# Altium footprint library Modules.PcbLib: 4 footprints
Each footprint in its own frame and in the unit in brackets; x right, y up, seen from the top. Pads: shape width x height; smd on the part's side, far side on the other; paste and mask are expansions set on the pad; w line width, h text height; cw(c..) or ccw(c..) is an arc to the next point about the centre after c.
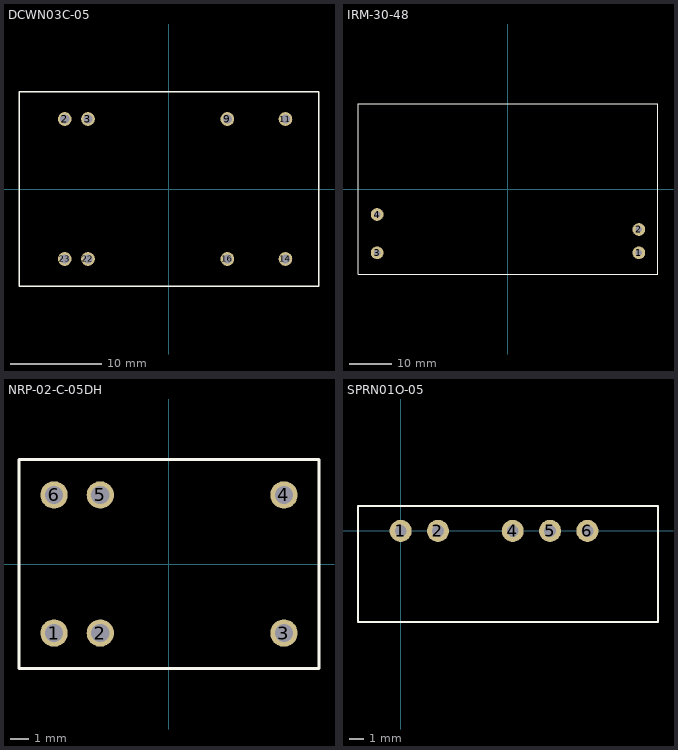
[diagram p0: the footprints below, top view; thin cyan lines are the x and y axes]

## DCWN03C-05 [mm]
pads (8):
  round 1.5 hole 1 unplated: 2(-11.4,7.65) 3(-8.86,7.65) 9(6.38,7.65) 11(12.73,7.65) 14(12.73,-7.65) 16(6.38,-7.65) 22(-8.86,-7.65) 23(-11.4,-7.65)
Top Overlay:
  lines w0.15: -16.4,-10.65 16.4,-10.65 16.4,10.65 -16.4,10.65 -16.4,-10.65
3D body: height 10.2, standoff 0, extent -16,-10.25 16,10.25
3D body: height 0, standoff -1.5, extent -11.65,7.4 -11.15,7.9
3D body: height 0, standoff -1.5, extent -9.11,7.4 -8.61,7.9
3D body: height 0, standoff -1.5, extent 6.13,7.4 6.63,7.9
3D body: height 0, standoff -1.5, extent 12.48,7.4 12.98,7.9
3D body: height 0, standoff -1.5, extent 12.48,-7.9 12.98,-7.4
3D body: height 0, standoff -1.5, extent 6.13,-7.9 6.63,-7.4
3D body: height 0, standoff -1.5, extent -9.11,-7.9 -8.61,-7.4
3D body: height 0, standoff -1.5, extent -11.65,-7.9 -11.15,-7.4

## IRM-30-48 [mm]
pads (4):
  round 3 hole 1.5 unplated: 1(30.75,-15) 2(30.75,-9.5) 3(-30.75,-15) 4(-30.75,-6)
Top Overlay:
  lines w0.15: -35.25,-20 35.25,-20 35.25,20 -35.25,20 -35.25,-20
3D body: height 0, standoff -3.5, extent 30.23,-15.52 31.27,-14.48
3D body: height 0, standoff -3.5, extent 30.23,-10.02 31.27,-8.98
3D body: height 24, standoff 0, extent -34.75,-19.5 34.75,19.5
3D body: height 0, standoff -3.5, extent -31.27,-6.52 -30.23,-5.48
3D body: height 0, standoff -3.5, extent -31.27,-15.52 -30.23,-14.48

## NRP-02-C-05DH [mm]
pads (6):
  round 1.5 hole 1 unplated: 1(-6.32,-3.8) 2(-3.78,-3.8) 3(6.32,-3.8) 4(6.32,3.8) 5(-3.78,3.8) 6(-6.32,3.8)
Top Overlay:
  lines w0.15: -8.25,-5.75 8.25,-5.75 8.25,5.75 -8.25,5.75 -8.25,-5.75
3D body: height 11.5, standoff 0, extent -7.75,-5.25 7.75,5.25
3D body: height 0, standoff -1.5, extent -6.62,3.5 -6.02,4.1
3D body: height 0, standoff -1.5, extent -4.055,3.5 -3.455,4.1
3D body: height 0, standoff -1.5, extent 6.045,3.5 6.645,4.1
3D body: height 0, standoff -1.5, extent 6.045,-4.1 6.645,-3.5
3D body: height 0, standoff -1.5, extent -4.055,-4.1 -3.455,-3.5
3D body: height 0, standoff -1.5, extent -6.595,-4.1 -5.995,-3.5

## SPRN01O-05 [mm]
pads (5):
  round 1.5 hole 0.8 unplated: 1(0,0) 2(2.54,0) 4(7.62,0) 5(10.16,0) 6(12.7,0)
Top Overlay:
  lines w0.15: -2.9,-6.2 17.5,-6.2 17.5,1.7 -2.9,1.7 -2.9,-6.2
3D body: height 1.5, standoff -1.5, extent 12.45,-0.15 12.95,0.15
3D body: height 1.5, standoff -1.5, extent 9.91,-0.15 10.41,0.15
3D body: height 1.5, standoff -1.5, extent 7.37,-0.15 7.87,0.15
3D body: height 1.5, standoff -1.5, extent 2.29,-0.15 2.79,0.15
3D body: height 1.5, standoff -1.5, extent -0.25,-0.15 0.25,0.15
3D body: height 10.1, standoff 0, extent -2.5,-5.8 17.1,1.3